# Altium footprint library cap_elec.PcbLib: 1 footprints
Each footprint in its own frame and in the unit in brackets; x right, y up, seen from the top. Pads: shape width x height; smd on the part's side, far side on the other; paste and mask are expansions set on the pad; w line width, h text height; cw(c..) or ccw(c..) is an arc to the next point about the centre after c.
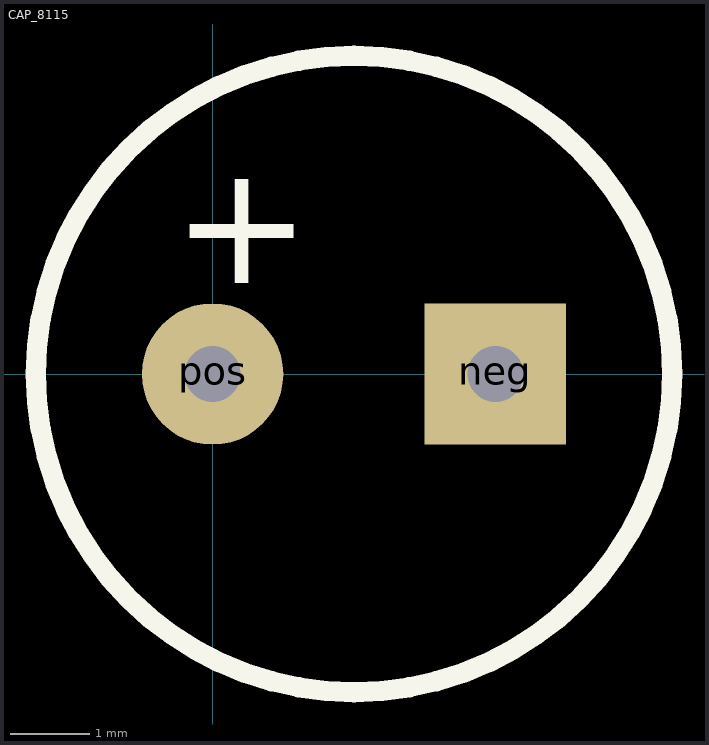
[diagram p0: the footprint, top view; thin cyan lines are the x and y axes]

## CAP_8115 [mil]
pads (2):
  rect 70x70 hole 27.56: neg(140,0)
  round 70 hole 27.56: pos(0,0)
Top Overlay:
  circle w10: c70,0 r157.48
  text "+" at -19.99,45 h60
3D body: height 452.76, standoff 0, extent -87.48,-157.35 227.48,157.35